# Altium schematic symbol library LDO_Texas_Instruments_TLV70218QDSERQ1_300mA.SchLib: 1 symbol
Pins are listed as number, name and electrical type; pins without a type are passive.

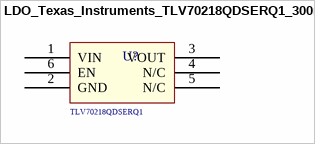
[diagram p0: symbol LDO_Texas_Instruments_TLV70218QDSERQ1_300mA]

## LDO_Texas_Instruments_TLV70218QDSERQ1_300mA
designator U?  Series: TLV70218QDSERQ1  (hidden comment: LDO_Texas_Instruments_TLV70218QDSERQ1_300mA)
LDO Voltage Regulators 300mA Low; Supplier 1: Mouser; Supplier Part Number 1: 595-TLV70218QDSERQ1
footprint LDO_Texas_Instruments_TLV70218QDSERQ1_300mA
pins: 1 VIN, 2 GND, 3 VOUT, 4 N/C, 5 N/C, 6 EN